# EAGLE library part S25FL204K (library sapog_reference_hardware)
4Mbit serial flash
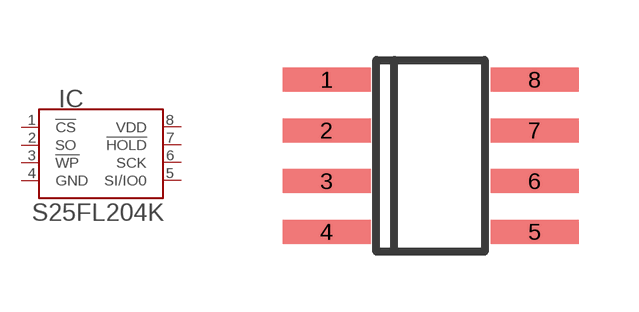
[diagram p2: symbol with the pads of SOIC8; footprint SOIC8]

Designator prefix IC

## S25FL204K (DIGIKEY#: 1274-1088-ND; MANF#: S25FL204K0TMFI041)  [SOIC8]
1  !CS
2  SO
3  !WP
4  GND
5  SI/IO0
6  SCK
7  !HOLD
8  VDD

## Footprint SOIC8 (pad centres in mm)
Small Outline IC
smd 2.2 x 0.6: 1 -2.6,1.905; 2 -2.6,0.635; 3 -2.6,-0.635; 4 -2.6,-1.905; 5 2.6,-1.905; 6 2.6,-0.635; 7 2.6,0.635; 8 2.6,1.905